# Altium integrated library TI Power Management Linear Regulator Single Channel LDO (400-7500mA).IntLib: 1408 symbols (part 52 of 60)
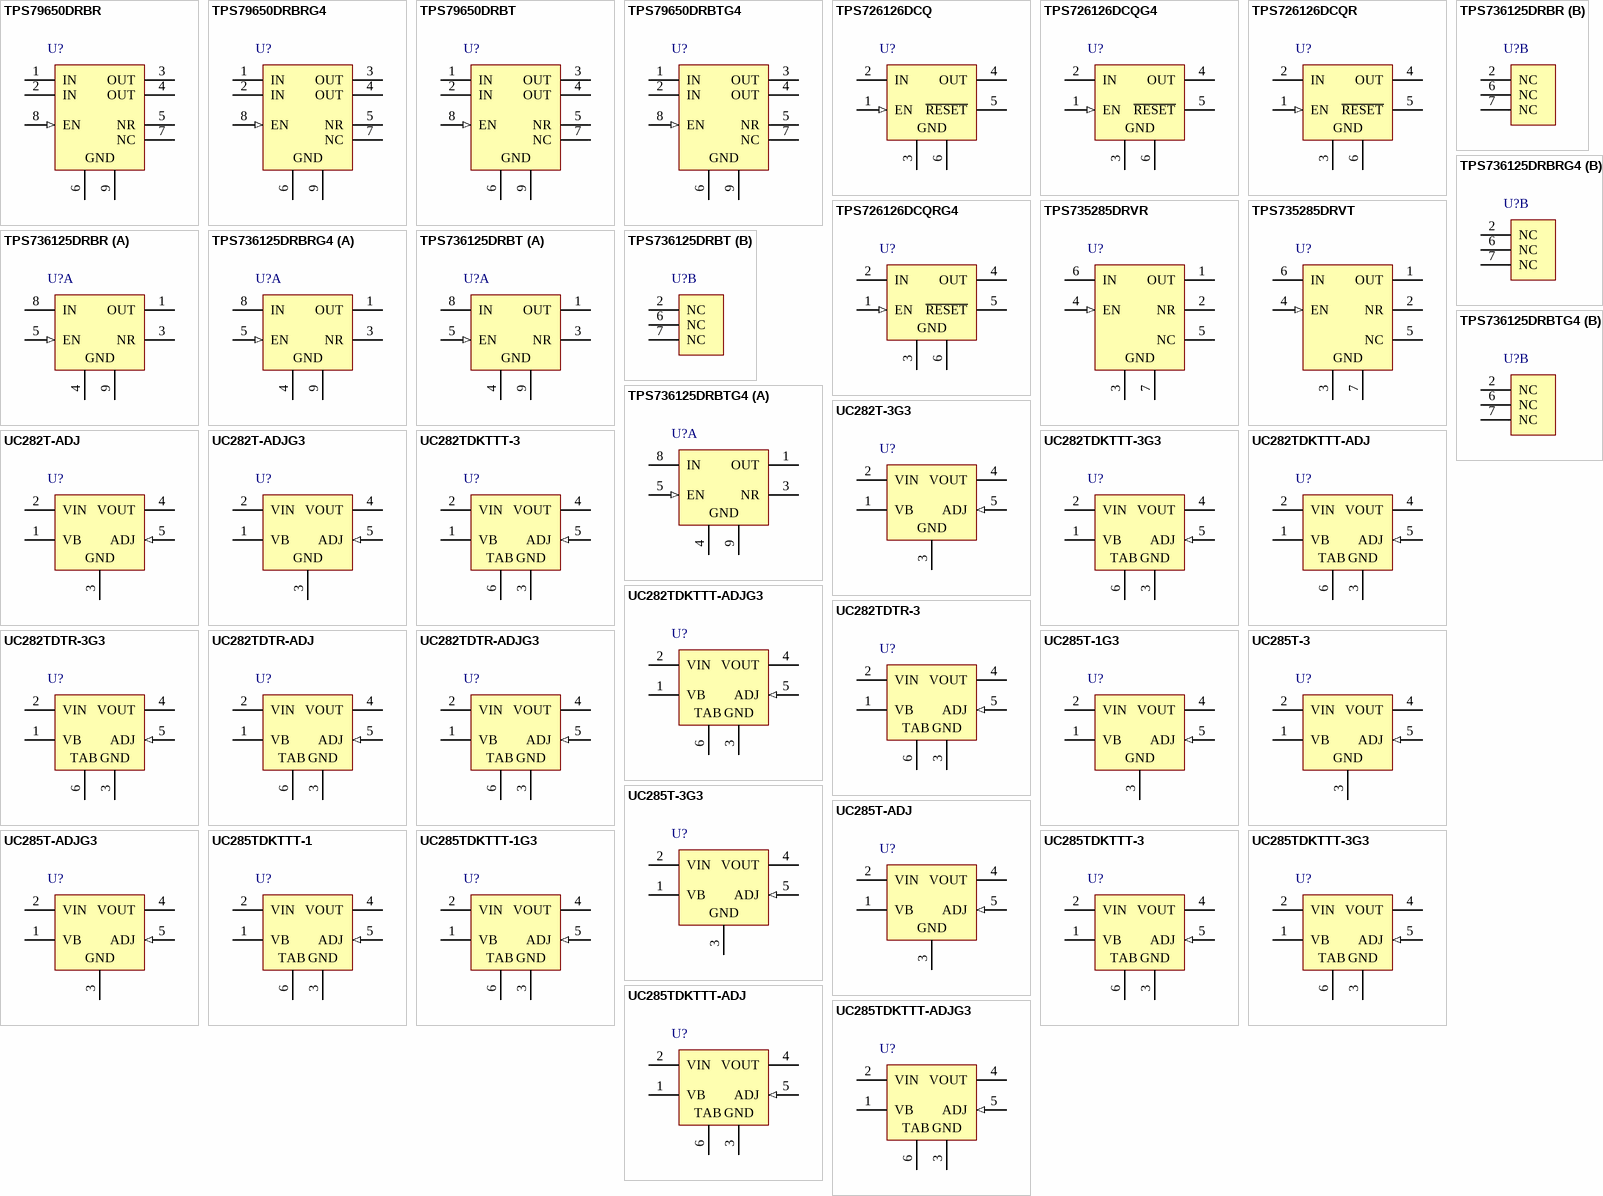
[diagram p101: symbols TPS79650DRBR to UC285TDKTTT-ADJG3]

## TPS726126DCQG4
designator U?
Single Output Any cap LDO, 1 A, Fixed 1.26 V Output, 1.8 to 6 V Input, with Integrated SVS, 6-pin SOT-223 (DCQ), -40 to 125 degC, Green (RoHS & no Sb/Br); Manufacturer: Texas Instruments; PartNumber: TPS726126DCQG4; Accuracy(%): 2; Fixed Output Options(V): 1.26; Iout(Max)(A): 1; Iq(Typ)(mA): 0.07; SubFamily: Single Channel LDO; Vdo(Typ)(mV): 200; Vin(Max)(V): 6; Vin(Min)(V): 1.8; Vout Adj(Max)(V): 1.2; DatasheetVersion: SLVS403H; PackageVersion: 4202109/D; PackageReference: DCQ6; PackageDescription: 6-Pin Plastic Small Outline, Body 3.5 x 6.5 mm, Pitch 1.27 mm; Supplier 1: Digi-Key; Supplier Part Number 1: TPS726126DCQG4-ND; Supplier 2: Mouser; Supplier Part Number 2: 595-TPS726126DCQG4; Eco-Plan: Green (RoHS & no Sb/Br); Vout Adj(Min)(V): 1.2; Mounting Technology: Surface Mount; ComponentLink1Description: Manufacturer URL; ComponentLink1URL: http://www.ti.com/; ComponentLink2Description: Datasheet; ComponentLink2URL: http://www.ti.com/general/docs/lit/getliterature.tsp?genericPartNumber=TPS726126&fileType=pdf; ComponentLink3Description: Package Specification; ComponentLink3URL: http://www.ti.com/litv/pdf/mpds098c
footprint TI-DCQ6_N (SOT223, 6-Leads, Body 6.5x3.5mm, Pitch 1.27mm, IPC Medium Density)
footprint TI-DCQ6_L (SOT223, 6-Leads, Body 6.5x3.5mm, Pitch 1.27mm, IPC High Density)
footprint TI-DCQ6_M (SOT223, 6-Leads, Body 6.5x3.5mm, Pitch 1.27mm, IPC Low Density)
pins: 1 EN (in) "Enable input", 2 IN (power) "Input supply voltage", 3 GND (power) "Ground", 4 OUT (power) "Regulated output voltage", 5 ~{RESET} (oc) "This terminal is the R\E\S\E\T\ output. When used with a pull-up resistor, this open-drain output provides the active low R\E\S\E\T\ signal when the regulator output voltage drops more than 5% below its nominal output (See Datasheet)", 6 GND (power) "Exposed Thermal Tab"

## TPS726126DCQR
designator U?
Single Output Any cap LDO, 1 A, Fixed 1.26 V Output, 1.8 to 6 V Input, with Integrated SVS, 6-pin SOT-223 (DCQ), -40 to 125 degC, Green (RoHS & no Sb/Br); Manufacturer: Texas Instruments; PartNumber: TPS726126DCQR; Accuracy(%): 2; Fixed Output Options(V): 1.26; Iout(Max)(A): 1.; Iq(Typ)(mA): 0.07; SubFamily: Single Channel LDO; Vdo(Typ)(mV): 200; Vin(Max)(V): 6; Vin(Min)(V): 1.8; Vout Adj(Max)(V): 1.2; DatasheetVersion: SLVS403H; PackageVersion: 4202109/D; PackageReference: DCQ6; PackageDescription: 6-Pin Plastic Small Outline, Body 3.5 x 6.5 mm, Pitch 1.27 mm; Supplier 1: Digi-Key; Supplier Part Number 1: TPS726126DCQR-ND; Supplier 2: Newark; Supplier Part Number 2: 40K9774; Supplier 3: Mouser; Supplier Part Number 3: 595-TPS726126DCQR; Eco-Plan: Green (RoHS & no Sb/Br); Vout Adj(Min)(V): 1.2; Mounting Technology: Surface Mount; ComponentLink1Description: Manufacturer URL; ComponentLink1URL: http://www.ti.com/; ComponentLink2Description: Datasheet; ComponentLink2URL: http://www.ti.com/general/docs/lit/getliterature.tsp?genericPartNumber=TPS726126&fileType=pdf; ComponentLink3Description: Package Specification; ComponentLink3URL: http://www.ti.com/litv/pdf/mpds098c
footprint TI-DCQ6_N (SOT223, 6-Leads, Body 6.5x3.5mm, Pitch 1.27mm, IPC Medium Density)
footprint TI-DCQ6_L (SOT223, 6-Leads, Body 6.5x3.5mm, Pitch 1.27mm, IPC High Density)
footprint TI-DCQ6_M (SOT223, 6-Leads, Body 6.5x3.5mm, Pitch 1.27mm, IPC Low Density)
pins: 1 EN (in) "Enable input", 2 IN (power) "Input supply voltage", 3 GND (power) "Ground", 4 OUT (power) "Regulated output voltage", 5 ~{RESET} (oc) "This terminal is the R\E\S\E\T\ output. When used with a pull-up resistor, this open-drain output provides the active low R\E\S\E\T\ signal when the regulator output voltage drops more than 5% below its nominal output (See Datasheet)", 6 GND (power) "Exposed Thermal Tab"

## TPS726126DCQRG4
designator U?
Single Output Any Cap LDO, 1 A, Fixed 1.26 V Output, 1.8 to 6 V Input, with Integrated SVS, 6-pin SOT-223 (DCQ), -40 to 125 degC, Green (RoHS & no Sb/Br); Manufacturer: Texas Instruments; PartNumber: TPS726126DCQRG4; Accuracy(%): 2; Fixed Output Options(V): 1.26; Iout(Max)(A): 1; Iq(Typ)(mA): 0.07; SubFamily: Single Channel LDO; Vdo(Typ)(mV): 200; Vin(Max)(V): 6; Vin(Min)(V): 1.8; Vout Adj(Max)(V): 1.2; DatasheetVersion: SLVS403H; PackageVersion: 4202109/D; PackageReference: DCQ6; PackageDescription: 6-Pin Plastic Small Outline, Body 3.5 x 6.5 mm, Pitch 1.27 mm; Supplier 1: Digi-Key; Supplier Part Number 1: TPS726126DCQRG4-ND; Supplier 2: Mouser; Supplier Part Number 2: 595-TPS726126DCQRG4; Eco-Plan: Green (RoHS & no Sb/Br); Vout Adj(Min)(V): 1.2; Mounting Technology: Surface Mount; ComponentLink1Description: Manufacturer URL; ComponentLink1URL: http://www.ti.com/; ComponentLink2Description: Datasheet; ComponentLink2URL: http://www.ti.com/general/docs/lit/getliterature.tsp?genericPartNumber=TPS726126&fileType=pdf; ComponentLink3Description: Package Specification; ComponentLink3URL: http://www.ti.com/litv/pdf/mpds098c
footprint TI-DCQ6_N (SOT223, 6-Leads, Body 6.5x3.5mm, Pitch 1.27mm, IPC Medium Density)
footprint TI-DCQ6_L (SOT223, 6-Leads, Body 6.5x3.5mm, Pitch 1.27mm, IPC High Density)
footprint TI-DCQ6_M (SOT223, 6-Leads, Body 6.5x3.5mm, Pitch 1.27mm, IPC Low Density)
pins: 1 EN (in) "Enable input", 2 IN (power) "Input supply voltage", 3 GND (power) "Ground", 4 OUT (power) "Regulated output voltage", 5 ~{RESET} (oc) "This terminal is the R\E\S\E\T\ output. When used with a pull-up resistor, this open-drain output provides the active low R\E\S\E\T\ signal when the regulator output voltage drops more than 5% below its nominal output (See Datasheet)", 6 GND (power) "Exposed Thermal Tab"

## TPS735285DRVR
designator U?
Single Output High PSRR LDO, 500 mA, Fixed 2.85 V Output, 2.7 to 6.5 V Input, with Low IQ, 6-pin SON (DRV), -40 to 125 degC, Green (RoHS & no Sb/Br); Manufacturer: Texas Instruments; PartNumber: TPS735285DRVR; Accuracy(%): 2; Fixed Output Options(V): 2.85; Iout(Max)(A): 0.5; Iq(Typ)(mA): 0.04; SubFamily: Single Channel LDO; Vdo(Typ)(mV): 280; Vin(Max)(V): 6.5; Vin(Min)(V): 2.7; DatasheetVersion: SBVS087J; PackageVersion: 4206925/E; PackageReference: DRV6-1600X1000TP; PackageDescription: 6-Pin Plastic Small Outline No-Lead, Body 2 x 2 mm, Pitch 0.65 mm; Supplier 1: Digi-Key; Supplier Part Number 1: 296-28951-2-ND; Supplier 2: Digi-Key; Supplier Part Number 2: 296-28951-1-ND; Supplier 3: Digi-Key; Supplier Part Number 3: 296-28951-6-ND; Supplier 4: Mouser; Supplier Part Number 4: 595-TPS735285DRVR; Eco-Plan: Green (RoHS & no Sb/Br); Vout Adj(Max)(V): 2.85; Vout Adj(Min)(V): 2.85; Mounting Technology: Surface Mount; ComponentLink1Description: Manufacturer URL; ComponentLink1URL: http://www.ti.com/; ComponentLink2Description: Datasheet; ComponentLink2URL: http://www.ti.com/general/docs/lit/getliterature.tsp?genericPartNumber=TPS735285&fileType=pdf; ComponentLink3Description: Package Specification; ComponentLink3URL: http://www.ti.com/litv/pdf/mpds216d
footprint TI-DRV6-1600X1000TP_V (SON, 6-Leads, Body 2x2mm, Pitch 0.65mm, Thermal Pad 1X1.6mm)
pins: 1 OUT (power) "Output of the regulator. A small capacitor (total typical capacitance >= 2.0uF ceramic) is needed from this pin to ground to assure stability.", 2 NR "Fixed voltage versions only; connecting an external capacitor to this pin bypasses noise generated by the internal bandgap. This allows output noise to be reduced to very low levels.", 3 GND (power) "Ground", 4 EN (in) "Driving the enable pin (EN) high turns on the regulator. Driving this pin low puts the regulator into shutdown mode. EN can be connected to IN if not used.", 5 NC "Not internally connected. This pin must either be left open, or tied to GND.", 6 IN (power) "Input supply.", 7 GND (power) "The pad must be tied to GND."

## TPS735285DRVT
designator U?
Single Output High PSRR LDO, 500 mA, Fixed 2.85 V Output, 2.7 to 6.5 V Input, with Low IQ, 6-pin SON (DRV), -40 to 125 degC, Green (RoHS & no Sb/Br); Manufacturer: Texas Instruments; PartNumber: TPS735285DRVT; Accuracy(%): 2; Fixed Output Options(V): 2.85; Iout(Max)(A): 0.5; Iq(Typ)(mA): 0.04; SubFamily: Single Channel LDO; Vdo(Typ)(mV): 280; Vin(Max)(V): 6.5; Vin(Min)(V): 2.7; DatasheetVersion: SBVS087J; PackageVersion: 4206925/E; PackageReference: DRV6-1600X1000TP; PackageDescription: 6-Pin Plastic Small Outline No-Lead, Body 2 x 2 mm, Pitch 0.65 mm; Supplier 1: Digi-Key; Supplier Part Number 1: TPS735285DRVT-ND; Supplier 2: Mouser; Supplier Part Number 2: 595-TPS735285DRVT; Eco-Plan: Green (RoHS & no Sb/Br); Vout Adj(Max)(V): 2.85; Vout Adj(Min)(V): 2.85; Mounting Technology: Surface Mount; ComponentLink1Description: Manufacturer URL; ComponentLink1URL: http://www.ti.com/; ComponentLink2Description: Datasheet; ComponentLink2URL: http://www.ti.com/general/docs/lit/getliterature.tsp?genericPartNumber=TPS735285&fileType=pdf; ComponentLink3Description: Package Specification; ComponentLink3URL: http://www.ti.com/litv/pdf/mpds216d
footprint TI-DRV6-1600X1000TP_V (SON, 6-Leads, Body 2x2mm, Pitch 0.65mm, Thermal Pad 1X1.6mm)
pins: 1 OUT (power) "Output of the regulator. A small capacitor (total typical capacitance >= 2.0uF ceramic) is needed from this pin to ground to assure stability.", 2 NR "Fixed voltage versions only; connecting an external capacitor to this pin bypasses noise generated by the internal bandgap. This allows output noise to be reduced to very low levels.", 3 GND (power) "Ground", 4 EN (in) "Driving the enable pin (EN) high turns on the regulator. Driving this pin low puts the regulator into shutdown mode. EN can be connected to IN if not used.", 5 NC "Not internally connected. This pin must either be left open, or tied to GND.", 6 IN (power) "Input supply.", 7 GND (power) "The pad must be tied to GND."

## TPS736125DRBR
designator U?
Single Output Low Noise LDO, 400 mA, Fixed 1.25 V Output, 1.7 to 5.5 V Input, with Reverse Current Protection, 8-pin SON (DRB), -40 to 85 degC, Green (RoHS & no Sb/Br); Manufacturer: Texas Instruments; PartNumber: TPS736125DRBR; Accuracy(%): 1; Fixed Output Options(V): 1.25; Iout(Max)(A): 0.4; Iq(Typ)(mA): 0.3; Rating: Catalog; SubFamily: Single Channel LDO; Vdo(Typ)(mV): 75; Vin(Max)(V): 5.5; Vin(Min)(V): 1.7; DatasheetVersion: SBVS038T; PackageVersion: 4203482-2/K; PackageReference: DRB8-1750X1500TP; PackageDescription: 8-Pin Plastic Small Outline, Body 3 x 3 mm, Pitch 0.65 mm; Supplier 1: Digi-Key; Supplier Part Number 1: 296-29782-2-ND; Supplier 2: Digi-Key; Supplier Part Number 2: 296-29782-1-ND; Supplier 3: Digi-Key; Supplier Part Number 3: 296-29782-6-ND; Supplier 4: Newark; Supplier Part Number 4: 43K4155; Supplier 5: Mouser; Supplier Part Number 5: 595-TPS736125DRBR; Eco-Plan: Green (RoHS & no Sb/Br); Vout Adj(Max)(V): 1.25; Vout Adj(Min)(V): 1.25; Mounting Technology: Surface Mount; ComponentLink1Description: Manufacturer URL; ComponentLink1URL: http://www.ti.com/; ComponentLink2Description: Datasheet; ComponentLink2URL: http://www.ti.com/general/docs/lit/getliterature.tsp?genericPartNumber=TPS736125&fileType=pdf; ComponentLink3Description: Package Specification; ComponentLink3URL: http://www.ti.com/litv/pdf/mpds118h; ComponentLink4Description: URL Link1; ComponentLink4URL: Samples URL:http://www.ti.com/product/tps736125#samples
footprint TI-DRB8-1750X1500TP_V (SON, 8-Leads, Body 3x3mm, Pitch 0.65mm, Thermal Pad 1.50 x 3.8mm)
part A pins: 1 OUT (power) "Output of the regulator. There are no output capacitor requirements for stability.", 3 NR "Fixed voltage versions only-connecting an external capacitor to this pin bypasses noise generated by the internal bandgap, reducing output noise to very low levels.", 4 GND (power) "Ground", 5 EN (in) "Driving the enable pin (EN) high turns on the regulator. Driving this pin low puts the regulator into shutdown mode. See the Shutdown section under Applications Information for more details. EN can be connected to IN if not (See Datasheet)", 8 IN (power) "Unregulated input supply", 9 GND (power) "Ground"
part B pins: 2 NC "No internal connection", 6 NC "No internal connection", 7 NC "No internal connection"

## TPS736125DRBRG4
designator U?
Single Output Low Noise LDO, 400 mA, Fixed 1.25 V Output, 1.7 to 5.5 V Input, with Reverse Current Protection, 8-pin SON (DRB), -40 to 85 degC, Green (RoHS & no Sb/Br); Manufacturer: Texas Instruments; PartNumber: TPS736125DRBRG4; Accuracy(%): 1; Fixed Output Options(V): 1.25; Iout(Max)(A): 0.4; Iq(Typ)(mA): 0.3; Rating: Catalog; SubFamily: Single Channel LDO; Vdo(Typ)(mV): 75; Vin(Max)(V): 5.5; Vin(Min)(V): 1.7; DatasheetVersion: SBVS038T; PackageVersion: 4203482-2/K; PackageReference: DRB8-1750X1500TP; PackageDescription: 8-Pin Plastic Small Outline, Body 3 x 3 mm, Pitch 0.65 mm; Supplier 1: Digi-Key; Supplier Part Number 1: TPS736125DRBRG4-ND; Supplier 2: Mouser; Supplier Part Number 2: 595-TPS736125DRBRG4; Eco-Plan: Green (RoHS & no Sb/Br); Vout Adj(Max)(V): 1.25; Vout Adj(Min)(V): 1.25; Mounting Technology: Surface Mount; ComponentLink1Description: Manufacturer URL; ComponentLink1URL: http://www.ti.com/; ComponentLink2Description: Datasheet; ComponentLink2URL: http://www.ti.com/general/docs/lit/getliterature.tsp?genericPartNumber=TPS736125&fileType=pdf; ComponentLink3Description: Package Specification; ComponentLink3URL: http://www.ti.com/litv/pdf/mpds118h; ComponentLink4Description: URL Link1; ComponentLink4URL: Samples URL:http://www.ti.com/product/tps736125#samples
footprint TI-DRB8-1750X1500TP_V (SON, 8-Leads, Body 3x3mm, Pitch 0.65mm, Thermal Pad 1.50 x 3.8mm)
part A pins: 1 OUT (power) "Output of the regulator. There are no output capacitor requirements for stability.", 3 NR "Fixed voltage versions only-connecting an external capacitor to this pin bypasses noise generated by the internal bandgap, reducing output noise to very low levels.", 4 GND (power) "Ground", 5 EN (in) "Driving the enable pin (EN) high turns on the regulator. Driving this pin low puts the regulator into shutdown mode. See the Shutdown section under Applications Information for more details. EN can be connected to IN if not (See Datasheet)", 8 IN (power) "Unregulated input supply", 9 GND (power) "Ground"
part B pins: 2 NC "No internal connection", 6 NC "No internal connection", 7 NC "No internal connection"

## TPS736125DRBT
designator U?
Single Output Low Noise LDO, 400 mA, Fixed 1.25 V Output, 1.7 to 5.5 V Input, with Reverse Current Protection, 8-pin SON (DRB), -40 to 85 degC, Green (RoHS & no Sb/Br); Manufacturer: Texas Instruments; PartNumber: TPS736125DRBT; Accuracy(%): 1; Fixed Output Options(V): 1.25; Iout(Max)(A): 0.4; Iq(Typ)(mA): 0.3; Rating: Catalog; SubFamily: Single Channel LDO; Vdo(Typ)(mV): 75; Vin(Max)(V): 5.5; Vin(Min)(V): 1.7; DatasheetVersion: SBVS038T; PackageVersion: 4203482-2/K; PackageReference: DRB8-1750X1500TP; PackageDescription: 8-Pin Plastic Small Outline, Body 3 x 3 mm, Pitch 0.65 mm; Supplier 1: Digi-Key; Supplier Part Number 1: 296-18252-2-ND; Supplier 2: Digi-Key; Supplier Part Number 2: 296-18252-1-ND; Supplier 3: Digi-Key; Supplier Part Number 3: 296-18252-6-ND; Supplier 4: Newark; Supplier Part Number 4: 43K4156; Supplier 5: Mouser; Supplier Part Number 5: 595-TPS736125DRBT; Eco-Plan: Green (RoHS & no Sb/Br); Vout Adj(Max)(V): 1.25; Vout Adj(Min)(V): 1.25; Mounting Technology: Surface Mount; ComponentLink1Description: Manufacturer URL; ComponentLink1URL: http://www.ti.com/; ComponentLink2Description: Datasheet; ComponentLink2URL: http://www.ti.com/general/docs/lit/getliterature.tsp?genericPartNumber=TPS736125&fileType=pdf; ComponentLink3Description: Package Specification; ComponentLink3URL: http://www.ti.com/litv/pdf/mpds118h; ComponentLink4Description: URL Link1; ComponentLink4URL: Samples URL:http://www.ti.com/product/tps736125#samples
footprint TI-DRB8-1750X1500TP_V (SON, 8-Leads, Body 3x3mm, Pitch 0.65mm, Thermal Pad 1.50 x 3.8mm)
part A pins: 1 OUT (power) "Output of the regulator. There are no output capacitor requirements for stability.", 3 NR "Fixed voltage versions only-connecting an external capacitor to this pin bypasses noise generated by the internal bandgap, reducing output noise to very low levels.", 4 GND (power) "Ground", 5 EN (in) "Driving the enable pin (EN) high turns on the regulator. Driving this pin low puts the regulator into shutdown mode. See the Shutdown section under Applications Information for more details. EN can be connected to IN if not (See Datasheet)", 8 IN (power) "Unregulated input supply", 9 GND (power) "Ground"
part B pins: 2 NC "No internal connection", 6 NC "No internal connection", 7 NC "No internal connection"

## TPS736125DRBTG4
designator U?
Single Output Low Noise LDO, 400 mA, Fixed 1.25 V Output, 1.7 to 5.5 V Input, with Reverse Current Protection, 8-pin SON (DRB), -40 to 85 degC, Green (RoHS & no Sb/Br); Manufacturer: Texas Instruments; PartNumber: TPS736125DRBTG4; Accuracy(%): 1; Fixed Output Options(V): 1.25; Iout(Max)(A): 0.4; Iq(Typ)(mA): 0.3; Rating: Catalog; SubFamily: Single Channel LDO; Vdo(Typ)(mV): 75; Vin(Max)(V): 5.5; Vin(Min)(V): 1.7; DatasheetVersion: SBVS038T; PackageVersion: 4203482-2/K; PackageReference: DRB8-1750X1500TP; PackageDescription: 8-Pin Plastic Small Outline, Body 3 x 3 mm, Pitch 0.65 mm; Supplier 1: Digi-Key; Supplier Part Number 1: TPS736125DRBTG4-ND; Supplier 2: Mouser; Supplier Part Number 2: 595-TPS736125DRBTG4; Eco-Plan: Green (RoHS & no Sb/Br); Vout Adj(Max)(V): 1.25; Vout Adj(Min)(V): 1.25; Mounting Technology: Surface Mount; ComponentLink1Description: Manufacturer URL; ComponentLink1URL: http://www.ti.com/; ComponentLink2Description: Datasheet; ComponentLink2URL: http://www.ti.com/general/docs/lit/getliterature.tsp?genericPartNumber=TPS736125&fileType=pdf; ComponentLink3Description: Package Specification; ComponentLink3URL: http://www.ti.com/litv/pdf/mpds118h; ComponentLink4Description: URL Link1; ComponentLink4URL: Samples URL:http://www.ti.com/product/tps736125#samples
footprint TI-DRB8-1750X1500TP_V (SON, 8-Leads, Body 3x3mm, Pitch 0.65mm, Thermal Pad 1.50 x 3.8mm)
part A pins: 1 OUT (power) "Output of the regulator. There are no output capacitor requirements for stability.", 3 NR "Fixed voltage versions only-connecting an external capacitor to this pin bypasses noise generated by the internal bandgap, reducing output noise to very low levels.", 4 GND (power) "Ground", 5 EN (in) "Driving the enable pin (EN) high turns on the regulator. Driving this pin low puts the regulator into shutdown mode. See the Shutdown section under Applications Information for more details. EN can be connected to IN if not (See Datasheet)", 8 IN (power) "Unregulated input supply", 9 GND (power) "Ground"
part B pins: 2 NC "No internal connection", 6 NC "No internal connection", 7 NC "No internal connection"

## UC282T-3G3
designator U?
Single Output Fast Transient Response LDO, 3 A, Fixed 3 V Output, 2.8 to 7.5 V Input, with Low IQ, 5-pin TO-220 (KC), -40 to 100 degC, Green (RoHS & no Sb/Br); Manufacturer: Texas Instruments; PartNumber: UC282T-3G3; Accuracy(%): 1; Fixed Output Options(V): 3.0; Iout(Max)(A): 3; Iq(Typ)(mA): 18; SubFamily: Single Channel LDO; Vdo(Typ)(mV): 350; Vin(Max)(V): 7.5; Vin(Min)(V): 2.8; DatasheetVersion: SLUS317B; PackageVersion: 4040208/F; PackageReference: KC5; PackageDescription: 5-Pin Plastic Flange Mount; Supplier 1: Digi-Key; Supplier Part Number 1: UC282T-3G3-ND; Supplier 2: Mouser; Supplier Part Number 2: 595-UC282T-3G3; Eco-Plan: Green (RoHS & no Sb/Br); Vout Adj(Max)(V): 3.0; Vout Adj(Min)(V): 3.0; Mounting Technology: Through Hole; ComponentLink1Description: Manufacturer URL; ComponentLink1URL: http://www.ti.com/; ComponentLink2Description: Datasheet; ComponentLink2URL: http://www.ti.com/general/docs/lit/getliterature.tsp?genericPartNumber=UC282-3&fileType=pdf; ComponentLink3Description: Package Specification; ComponentLink3URL: http://www.ti.com/litv/pdf/msot008c
footprint TI-KC5 (FM, 5-Leads, Body 10.16x8.46mm, Pitch 1.7mm,)
pins: 1 VB (power) "Supplies power to all circuits of the regulator except the output power transistor. The 2-V headroom from VB to VOUT allows the use of a Darlington output stage for inherently low output impedance and fast response. (Dropout (See Datasheet)", 2 VIN (power) "Supplies the current to the collector of the output power transistor only. The dropout (VIN-VOUT) is under 100 mV for light loads; maximum dropout is 490 mV at 5 A for TJ = 0degreesC to 100degreesC. (Dropout is derated for (See Datasheet)", 3 GND (power) "For accurate results, the GND pin should be referenced to the load ground.", 4 VOUT (power) "This pin should be connected to the load via a low impedance path. Avoid connectors which add significant inductance and resistance. Note that even though a Kelvin sense is available through a 5-pin package, care must be (See Datasheet)", 5 ADJ (in) "In the adjustable version, the user programs the output voltage with two external resistors. The resistors should be 0.1% for high accuracy. The output amplifier is configured as a noninverting operational amplifier. The (See Datasheet)"

## UC282T-ADJ
designator U?
Single Output Fast Transient Response LDO, 3 A, Adjustable 1.2 to 6 V Output, 1.7 to 7.5 V Input, 5-pin TO-220 (KC), -40 to 100 degC, Green (RoHS & no Sb/Br); Manufacturer: Texas Instruments; PartNumber: UC282T-ADJ; Accuracy(%): 1; Iout(Max)(A): 3; Iq(Typ)(mA): 18; SubFamily: Single Channel LDO; Vdo(Typ)(mV): 350; Vin(Max)(V): 7.5; Vin(Min)(V): 1.7; Vout Adj(Max)(V): 6; Vout Adj(Min)(V): 1.2; DatasheetVersion: SLUS317B; PackageVersion: 4040208/F; PackageReference: KC5; PackageDescription: 5-Pin Plastic Flange Mount; Supplier 1: Digi-Key; Supplier Part Number 1: 296-15149-5-ND; Supplier 2: Mouser; Supplier Part Number 2: 595-UC282T-ADJ; Eco-Plan: Green (RoHS & no Sb/Br); Mounting Technology: Through Hole; ComponentLink1Description: Manufacturer URL; ComponentLink1URL: http://www.ti.com/; ComponentLink2Description: Datasheet; ComponentLink2URL: http://www.ti.com/general/docs/lit/getliterature.tsp?genericPartNumber=UC282-ADJ&fileType=pdf; ComponentLink3Description: Package Specification; ComponentLink3URL: http://www.ti.com/litv/pdf/msot008c
footprint TI-KC5 (FM, 5-Leads, Body 10.16x8.46mm, Pitch 1.7mm,)
pins: 1 VB (power) "Supplies power to all circuits of the regulator except the output power transistor. The 2-V headroom from VB to VOUT allows the use of a Darlington output stage for inherently low output impedance and fast response. (Dropout (See Datasheet)", 2 VIN (power) "Supplies the current to the collector of the output power transistor only. The dropout (VIN-VOUT) is under 100 mV for light loads; maximum dropout is 490 mV at 5 A for TJ = 0degreesC to 100degreesC. (Dropout is derated for (See Datasheet)", 3 GND (power) "For accurate results, the GND pin should be referenced to the load ground.", 4 VOUT (power) "This pin should be connected to the load via a low impedance path. Avoid connectors which add significant inductance and resistance. Note that even though a Kelvin sense is available through a 5-pin package, care must be (See Datasheet)", 5 ADJ (in) "In the adjustable version, the user programs the output voltage with two external resistors. The resistors should be 0.1% for high accuracy. The output amplifier is configured as a noninverting operational amplifier. The (See Datasheet)"

## UC282T-ADJG3
designator U?
Single Output Fast Transient Response LDO, 3 A, Adjustable 1.2 to 6 V Output, 1.7 to 7.5 V Input, 5-pin TO-220 (KC), -40 to 100 degC, Green (RoHS & no Sb/Br); Manufacturer: Texas Instruments; PartNumber: UC282T-ADJG3; Accuracy(%): 1; Iout(Max)(A): 3; Iq(Typ)(mA): 18; SubFamily: Single Channel LDO; Vdo(Typ)(mV): 350; Vin(Max)(V): 7.5; Vin(Min)(V): 1.7; Vout Adj(Max)(V): 6; Vout Adj(Min)(V): 1.2; DatasheetVersion: SLUS317B; PackageVersion: 4040208/F; PackageReference: KC5; PackageDescription: 5-Pin Plastic Flange Mount; Supplier 1: Digi-Key; Supplier Part Number 1: UC282T-ADJG3-ND; Supplier 2: Newark; Supplier Part Number 2: 99K4482; Supplier 3: Mouser; Supplier Part Number 3: 595-UC282T-ADJG3; Eco-Plan: Green (RoHS & no Sb/Br); Mounting Technology: Through Hole; ComponentLink1Description: Manufacturer URL; ComponentLink1URL: http://www.ti.com/; ComponentLink2Description: Datasheet; ComponentLink2URL: http://www.ti.com/general/docs/lit/getliterature.tsp?genericPartNumber=UC282-ADJ&fileType=pdf; ComponentLink3Description: Package Specification; ComponentLink3URL: http://www.ti.com/litv/pdf/msot008c
footprint TI-KC5 (FM, 5-Leads, Body 10.16x8.46mm, Pitch 1.7mm,)
pins: 1 VB (power) "Supplies power to all circuits of the regulator except the output power transistor. The 2-V headroom from VB to VOUT allows the use of a Darlington output stage for inherently low output impedance and fast response. (Dropout (See Datasheet)", 2 VIN (power) "Supplies the current to the collector of the output power transistor only. The dropout (VIN-VOUT) is under 100 mV for light loads; maximum dropout is 490 mV at 5 A for TJ = 0degreesC to 100degreesC. (Dropout is derated for (See Datasheet)", 3 GND (power) "For accurate results, the GND pin should be referenced to the load ground.", 4 VOUT (power) "This pin should be connected to the load via a low impedance path. Avoid connectors which add significant inductance and resistance. Note that even though a Kelvin sense is available through a 5-pin package, care must be (See Datasheet)", 5 ADJ (in) "In the adjustable version, the user programs the output voltage with two external resistors. The resistors should be 0.1% for high accuracy. The output amplifier is configured as a noninverting operational amplifier. The (See Datasheet)"

## UC282TDKTTT-3
designator U?
Single Output Fast Transient Response LDO, 3 A, Fixed 2.5 V Output, 2.8 to 7.5 V Input, 5-pin DDPAK (KTT), -40 to 100 degC, Green (RoHS & no Sb/Br); Manufacturer: Texas Instruments; PartNumber: UC282TDKTTT-3; Accuracy(%): 1; Fixed Output Options(V): 2.5; Iout(Max)(A): 3; Iq(Typ)(mA): 18; SubFamily: Single Channel LDO; Vdo(Typ)(mV): 350; Vin(Max)(V): 7.5; Vin(Min)(V): 2.8; DatasheetVersion: SLUS317B; PackageVersion: 4200577-3/F; PackageReference: KTT5; PackageDescription: 3-Pin Plastic Flange Mount, Body 10.16 x 10.34 mm, Pitch 1.7 mm; Supplier 1: Digi-Key; Supplier Part Number 1: 296-16013-2-ND; Supplier 2: Digi-Key; Supplier Part Number 2: 296-16013-1-ND; Supplier 3: Mouser; Supplier Part Number 3: 595-UC282TDKTTT-3; Eco-Plan: Green (RoHS & no Sb/Br); Vout Adj(Max)(V): 2.5; Vout Adj(Min)(V): 2.5; Mounting Technology: Surface Mount; Code_JEDEC: TO-263; ComponentLink1Description: Manufacturer URL; ComponentLink1URL: http://www.ti.com/; ComponentLink2Description: Datasheet; ComponentLink2URL: http://www.ti.com/general/docs/lit/getliterature.tsp?genericPartNumber=UC282-3&fileType=pdf; ComponentLink3Description: Package Specification; ComponentLink3URL: http://www.ti.com/litv/pdf/mpsf007e
footprint TI-KTT5_N (DPAK, 5-Leads, Body 10.16x8.925mm, Pitch 1.7mm, IPC Medium Density)
footprint TI-KTT5_L (DPAK, 5-Leads, Body 10.16x8.925mm, Pitch 1.7mm, IPC High Density)
footprint TI-KTT5_M (DPAK, 5-Leads, Body 10.16x8.925mm, Pitch 1.7mm, IPC Low Density)
pins: 1 VB (power) "Supplies power to all circuits of the regulator except the output power transistor. The 2-V headroom from VB to VOUT allows the use of a Darlington output stage for inherently low output impedance and fast response.(Dropout (See Datasheet)", 2 VIN (power) "Supplies the current to the collector of the output power transistor only. The dropout (VIN-VOUT) is under 100 mV for light loads; maximum dropout is 490 mV at 5 A for TJ = 0degreesC to 100degreesC. (Dropout is derated for (See Datasheet)", 3 GND (power) "For accurate results, the GND pin should be referenced to the load ground.", 4 VOUT (power) "This pin should be connected to the load via a low impedance path. Avoid connectors which add significant inductance and resistance. Note that even though a Kelvin sense is available through a 5-pin package, care must be (See Datasheet)", 5 ADJ (in) "In the adjustable version, the user programs the output voltage with two external resistors. The resistors should be 0.1% for high accuracy. The output amplifier is configured as a noninverting operational amplifier. The (See Datasheet)", 6 TAB (power) "Tab = Ground"

## UC282TDKTTT-3G3
designator U?
Single Output Fast Transient Response LDO, 3 A, Fixed 2.5 V Output, 2.8 to 7.5 V Input, 5-pin DDPAK (KTT), -40 to 100 degC, Green (RoHS & no Sb/Br); Manufacturer: Texas Instruments; PartNumber: UC282TDKTTT-3G3; Accuracy(%): 1; Fixed Output Options(V): 2.5; Iout(Max)(A): 3; Iq(Typ)(mA): 18; SubFamily: Single Channel LDO; Vdo(Typ)(mV): 350; Vin(Max)(V): 7.5; Vin(Min)(V): 2.8; DatasheetVersion: SLUS317B; PackageVersion: 4200577-3/F; PackageReference: KTT5; PackageDescription: 3-Pin Plastic Flange Mount, Body 10.16 x 10.34 mm, Pitch 1.7 mm; Supplier 1: Digi-Key; Supplier Part Number 1: UC282TDKTTT-3G3-ND; Supplier 2: Mouser; Supplier Part Number 2: 595-UC282TDKTTT-3G3; Eco-Plan: Green (RoHS & no Sb/Br); Vout Adj(Max)(V): 2.5; Vout Adj(Min)(V): 2.5; Mounting Technology: Surface Mount; Code_JEDEC: TO-263; ComponentLink1Description: Manufacturer URL; ComponentLink1URL: http://www.ti.com/; ComponentLink2Description: Datasheet; ComponentLink2URL: http://www.ti.com/general/docs/lit/getliterature.tsp?genericPartNumber=UC282-3&fileType=pdf; ComponentLink3Description: Package Specification; ComponentLink3URL: http://www.ti.com/litv/pdf/mpsf007e
footprint TI-KTT5_N (DPAK, 5-Leads, Body 10.16x8.925mm, Pitch 1.7mm, IPC Medium Density)
footprint TI-KTT5_L (DPAK, 5-Leads, Body 10.16x8.925mm, Pitch 1.7mm, IPC High Density)
footprint TI-KTT5_M (DPAK, 5-Leads, Body 10.16x8.925mm, Pitch 1.7mm, IPC Low Density)
pins: 1 VB (power) "Supplies power to all circuits of the regulator except the output power transistor. The 2-V headroom from VB to VOUT allows the use of a Darlington output stage for inherently low output impedance and fast response.(Dropout (See Datasheet)", 2 VIN (power) "Supplies the current to the collector of the output power transistor only. The dropout (VIN-VOUT) is under 100 mV for light loads; maximum dropout is 490 mV at 5 A for TJ = 0degreesC to 100degreesC. (Dropout is derated for (See Datasheet)", 3 GND (power) "For accurate results, the GND pin should be referenced to the load ground.", 4 VOUT (power) "This pin should be connected to the load via a low impedance path. Avoid connectors which add significant inductance and resistance. Note that even though a Kelvin sense is available through a 5-pin package, care must be (See Datasheet)", 5 ADJ (in) "In the adjustable version, the user programs the output voltage with two external resistors. The resistors should be 0.1% for high accuracy. The output amplifier is configured as a noninverting operational amplifier. The (See Datasheet)", 6 TAB (power) "Tab = Ground"

## UC282TDKTTT-ADJ
designator U?
Single Output Fast Transient Response LDO, 3 A, Adjustable 1.2 to 6 V Output, 1.7 to 7.5 V Input, 5-pin DDPAK (KTT), -40 to 100 degC, Green (RoHS & no Sb/Br); Manufacturer: Texas Instruments; PartNumber: UC282TDKTTT-ADJ; Accuracy(%): 1; Iout(Max)(A): 3; Iq(Typ)(mA): 18; SubFamily: Single Channel LDO; Vdo(Typ)(mV): 350; Vin(Max)(V): 7.5; Vin(Min)(V): 1.7; Vout Adj(Max)(V): 6; Vout Adj(Min)(V): 1.2; DatasheetVersion: SLUS317B; PackageVersion: 4200577-3/F; PackageReference: KTT5; PackageDescription: 3-Pin Plastic Flange Mount, Body 10.16 x 10.34 mm, Pitch 1.7 mm; Supplier 1: Digi-Key; Supplier Part Number 1: 296-16014-2-ND; Supplier 2: Digi-Key; Supplier Part Number 2: 296-16014-1-ND; Supplier 3: Digi-Key; Supplier Part Number 3: 296-16014-6-ND; Supplier 4: Newark; Supplier Part Number 4: 45P6144; Supplier 5: Mouser; Supplier Part Number 5: 595-UC282TDKTTT-ADJ; Eco-Plan: Green (RoHS & no Sb/Br); Mounting Technology: Surface Mount; Code_JEDEC: TO-263; ComponentLink1Description: Manufacturer URL; ComponentLink1URL: http://www.ti.com/; ComponentLink2Description: Datasheet; ComponentLink2URL: http://www.ti.com/general/docs/lit/getliterature.tsp?genericPartNumber=UC282-ADJ&fileType=pdf; ComponentLink3Description: Package Specification; ComponentLink3URL: http://www.ti.com/litv/pdf/mpsf007e
footprint TI-KTT5_N (DPAK, 5-Leads, Body 10.16x8.925mm, Pitch 1.7mm, IPC Medium Density)
footprint TI-KTT5_L (DPAK, 5-Leads, Body 10.16x8.925mm, Pitch 1.7mm, IPC High Density)
footprint TI-KTT5_M (DPAK, 5-Leads, Body 10.16x8.925mm, Pitch 1.7mm, IPC Low Density)
pins: 1 VB (power) "Supplies power to all circuits of the regulator except the output power transistor. The 2-V headroom from VB to VOUT allows the use of a Darlington output stage for inherently low output impedance and fast response.(Dropout (See Datasheet)", 2 VIN (power) "Supplies the current to the collector of the output power transistor only. The dropout (VIN-VOUT) is under 100 mV for light loads; maximum dropout is 490 mV at 5 A for TJ = 0degreesC to 100degreesC. (Dropout is derated for (See Datasheet)", 3 GND (power) "For accurate results, the GND pin should be referenced to the load ground.", 4 VOUT (power) "This pin should be connected to the load via a low impedance path. Avoid connectors which add significant inductance and resistance. Note that even though a Kelvin sense is available through a 5-pin package, care must be (See Datasheet)", 5 ADJ (in) "In the adjustable version, the user programs the output voltage with two external resistors. The resistors should be 0.1% for high accuracy. The output amplifier is configured as a noninverting operational amplifier. The (See Datasheet)", 6 TAB (power) "Tab = Ground"

## UC282TDKTTT-ADJG3
designator U?
Single Output Fast Transient Response LDO, 3 A, Adjustable 1.2 to 6 V Output, 1.7 to 7.5 V Input, 5-pin DDPAK (KTT), -40 to 100 degC, Green (RoHS & no Sb/Br); Manufacturer: Texas Instruments; PartNumber: UC282TDKTTT-ADJG3; Accuracy(%): 1; Iout(Max)(A): 3; Iq(Typ)(mA): 18; SubFamily: Single Channel LDO; Vdo(Typ)(mV): 350; Vin(Max)(V): 7.5; Vin(Min)(V): 1.7; Vout Adj(Max)(V): 6; Vout Adj(Min)(V): 1.2; DatasheetVersion: SLUS317B; PackageVersion: 4200577-3/F; PackageReference: KTT5; PackageDescription: 3-Pin Plastic Flange Mount, Body 10.16 x 10.34 mm, Pitch 1.7 mm; Supplier 1: Digi-Key; Supplier Part Number 1: UC282TDKTTT-ADJG3-ND; Supplier 2: Mouser; Supplier Part Number 2: 595-UC282TDKTTTADJG3; Eco-Plan: Green (RoHS & no Sb/Br); Mounting Technology: Surface Mount; Code_JEDEC: TO-263; ComponentLink1Description: Manufacturer URL; ComponentLink1URL: http://www.ti.com/; ComponentLink2Description: Datasheet; ComponentLink2URL: http://www.ti.com/general/docs/lit/getliterature.tsp?genericPartNumber=UC282-ADJ&fileType=pdf; ComponentLink3Description: Package Specification; ComponentLink3URL: http://www.ti.com/litv/pdf/mpsf007e
footprint TI-KTT5_N (DPAK, 5-Leads, Body 10.16x8.925mm, Pitch 1.7mm, IPC Medium Density)
footprint TI-KTT5_L (DPAK, 5-Leads, Body 10.16x8.925mm, Pitch 1.7mm, IPC High Density)
footprint TI-KTT5_M (DPAK, 5-Leads, Body 10.16x8.925mm, Pitch 1.7mm, IPC Low Density)
pins: 1 VB (power) "Supplies power to all circuits of the regulator except the output power transistor. The 2-V headroom from VB to VOUT allows the use of a Darlington output stage for inherently low output impedance and fast response.(Dropout (See Datasheet)", 2 VIN (power) "Supplies the current to the collector of the output power transistor only. The dropout (VIN-VOUT) is under 100 mV for light loads; maximum dropout is 490 mV at 5 A for TJ = 0degreesC to 100degreesC. (Dropout is derated for (See Datasheet)", 3 GND (power) "For accurate results, the GND pin should be referenced to the load ground.", 4 VOUT (power) "This pin should be connected to the load via a low impedance path. Avoid connectors which add significant inductance and resistance. Note that even though a Kelvin sense is available through a 5-pin package, care must be (See Datasheet)", 5 ADJ (in) "In the adjustable version, the user programs the output voltage with two external resistors. The resistors should be 0.1% for high accuracy. The output amplifier is configured as a noninverting operational amplifier. The (See Datasheet)", 6 TAB (power) "Tab = Ground"

## UC282TDTR-3
designator U?
Single Output Fast Transient Response LDO, 3 A, Fixed 2.5 V Output, 2.8 to 7.5 V Input, 5-pin DDPAK (KTT), -40 to 100 degC, Green (RoHS & no Sb/Br); Manufacturer: Texas Instruments; PartNumber: UC282TDTR-3; Accuracy(%): 1; Fixed Output Options(V): 2.5; Iout(Max)(A): 3; Iq(Typ)(mA): 18; SubFamily: Single Channel LDO; Vdo(Typ)(mV): 350; Vin(Max)(V): 7.5; Vin(Min)(V): 2.8; DatasheetVersion: SLUS317B; PackageVersion: 4200577-3/F; PackageReference: KTT5; PackageDescription: 3-Pin Plastic Flange Mount, Body 10.16 x 10.34 mm, Pitch 1.7 mm; Supplier 1: Digi-Key; Supplier Part Number 1: 296-19031-2-ND; Supplier 2: Digi-Key; Supplier Part Number 2: 296-19031-1-ND; Supplier 3: Digi-Key; Supplier Part Number 3: 296-19031-6-ND; Supplier 4: Mouser; Supplier Part Number 4: 595-UC282TDTR-3; Eco-Plan: Green (RoHS & no Sb/Br); Vout Adj(Max)(V): 2.5; Vout Adj(Min)(V): 2.5; Mounting Technology: Surface Mount; Code_JEDEC: TO-263; ComponentLink1Description: Manufacturer URL; ComponentLink1URL: http://www.ti.com/; ComponentLink2Description: Datasheet; ComponentLink2URL: http://www.ti.com/general/docs/lit/getliterature.tsp?genericPartNumber=UC282-3&fileType=pdf; ComponentLink3Description: Package Specification; ComponentLink3URL: http://www.ti.com/litv/pdf/mpsf007e
footprint TI-KTT5_N (DPAK, 5-Leads, Body 10.16x8.925mm, Pitch 1.7mm, IPC Medium Density)
footprint TI-KTT5_L (DPAK, 5-Leads, Body 10.16x8.925mm, Pitch 1.7mm, IPC High Density)
footprint TI-KTT5_M (DPAK, 5-Leads, Body 10.16x8.925mm, Pitch 1.7mm, IPC Low Density)
pins: 1 VB (power) "Supplies power to all circuits of the regulator except the output power transistor. The 2-V headroom from VB to VOUT allows the use of a Darlington output stage for inherently low output impedance and fast response.(Dropout (See Datasheet)", 2 VIN (power) "Supplies the current to the collector of the output power transistor only. The dropout (VIN-VOUT) is under 100 mV for light loads; maximum dropout is 490 mV at 5 A for TJ = 0degreesC to 100degreesC. (Dropout is derated for (See Datasheet)", 3 GND (power) "For accurate results, the GND pin should be referenced to the load ground.", 4 VOUT (power) "This pin should be connected to the load via a low impedance path. Avoid connectors which add significant inductance and resistance. Note that even though a Kelvin sense is available through a 5-pin package, care must be (See Datasheet)", 5 ADJ (in) "In the adjustable version, the user programs the output voltage with two external resistors. The resistors should be 0.1% for high accuracy. The output amplifier is configured as a noninverting operational amplifier. The (See Datasheet)", 6 TAB (power) "Tab = Ground"

## UC282TDTR-3G3
designator U?
Single Output Fast Transient Response LDO, 3 A, Fixed 2.5 V Output, 2.8 to 7.5 V Input, 5-pin DDPAK (KTT), -40 to 100 degC, Green (RoHS & no Sb/Br); Manufacturer: Texas Instruments; PartNumber: UC282TDTR-3G3; Accuracy(%): 1; Fixed Output Options(V): 2.5; Iout(Max)(A): 3; Iq(Typ)(mA): 18; SubFamily: Single Channel LDO; Vdo(Typ)(mV): 350; Vin(Max)(V): 7.5; Vin(Min)(V): 2.8; DatasheetVersion: SLUS317B; PackageVersion: 4200577-3/F; PackageReference: KTT5; PackageDescription: 3-Pin Plastic Flange Mount, Body 10.16 x 10.34 mm, Pitch 1.7 mm; Supplier 1: Digi-Key; Supplier Part Number 1: UC282TDTR-3G3-ND; Supplier 2: Mouser; Supplier Part Number 2: 595-UC282TDTR-3G3; Eco-Plan: Green (RoHS & no Sb/Br); Vout Adj(Max)(V): 2.5; Vout Adj(Min)(V): 2.5; Mounting Technology: Surface Mount; Code_JEDEC: TO-263; ComponentLink1Description: Manufacturer URL; ComponentLink1URL: http://www.ti.com/; ComponentLink2Description: Datasheet; ComponentLink2URL: http://www.ti.com/general/docs/lit/getliterature.tsp?genericPartNumber=UC282-3&fileType=pdf; ComponentLink3Description: Package Specification; ComponentLink3URL: http://www.ti.com/litv/pdf/mpsf007e
footprint TI-KTT5_N (DPAK, 5-Leads, Body 10.16x8.925mm, Pitch 1.7mm, IPC Medium Density)
footprint TI-KTT5_L (DPAK, 5-Leads, Body 10.16x8.925mm, Pitch 1.7mm, IPC High Density)
footprint TI-KTT5_M (DPAK, 5-Leads, Body 10.16x8.925mm, Pitch 1.7mm, IPC Low Density)
pins: 1 VB (power) "Supplies power to all circuits of the regulator except the output power transistor. The 2-V headroom from VB to VOUT allows the use of a Darlington output stage for inherently low output impedance and fast response.(Dropout (See Datasheet)", 2 VIN (power) "Supplies the current to the collector of the output power transistor only. The dropout (VIN-VOUT) is under 100 mV for light loads; maximum dropout is 490 mV at 5 A for TJ = 0degreesC to 100degreesC. (Dropout is derated for (See Datasheet)", 3 GND (power) "For accurate results, the GND pin should be referenced to the load ground.", 4 VOUT (power) "This pin should be connected to the load via a low impedance path. Avoid connectors which add significant inductance and resistance. Note that even though a Kelvin sense is available through a 5-pin package, care must be (See Datasheet)", 5 ADJ (in) "In the adjustable version, the user programs the output voltage with two external resistors. The resistors should be 0.1% for high accuracy. The output amplifier is configured as a noninverting operational amplifier. The (See Datasheet)", 6 TAB (power) "Tab = Ground"

## UC282TDTR-ADJ
designator U?
Single Output Fast Transient Response LDO, 3 A, Adjustable 1.2 to 6 V Output, 1.7 to 7.5 V Input, 5-pin DDPAK (KTT), -40 to 100 degC, Green (RoHS & no Sb/Br); Manufacturer: Texas Instruments; PartNumber: UC282TDTR-ADJ; Accuracy(%): 1; Iout(Max)(A): 3; Iq(Typ)(mA): 18; SubFamily: Single Channel LDO; Vdo(Typ)(mV): 350; Vin(Max)(V): 7.5; Vin(Min)(V): 1.7; Vout Adj(Max)(V): 6; Vout Adj(Min)(V): 1.2; DatasheetVersion: SLUS317B; PackageVersion: 4200577-3/F; PackageReference: KTT5; PackageDescription: 3-Pin Plastic Flange Mount, Body 10.16 x 10.34 mm, Pitch 1.7 mm; Supplier 1: Digi-Key; Supplier Part Number 1: 296-18067-2-ND; Supplier 2: Digi-Key; Supplier Part Number 2: 296-18067-1-ND; Supplier 3: Digi-Key; Supplier Part Number 3: 296-18067-6-ND; Supplier 4: Newark; Supplier Part Number 4: 77C2882; Supplier 5: Mouser; Supplier Part Number 5: 595-UC282TDTR-ADJ; Eco-Plan: Green (RoHS & no Sb/Br); Mounting Technology: Surface Mount; Code_JEDEC: TO-263; ComponentLink1Description: Manufacturer URL; ComponentLink1URL: http://www.ti.com/; ComponentLink2Description: Datasheet; ComponentLink2URL: http://www.ti.com/general/docs/lit/getliterature.tsp?genericPartNumber=UC282-ADJ&fileType=pdf; ComponentLink3Description: Package Specification; ComponentLink3URL: http://www.ti.com/litv/pdf/mpsf007e
footprint TI-KTT5_N (DPAK, 5-Leads, Body 10.16x8.925mm, Pitch 1.7mm, IPC Medium Density)
footprint TI-KTT5_L (DPAK, 5-Leads, Body 10.16x8.925mm, Pitch 1.7mm, IPC High Density)
footprint TI-KTT5_M (DPAK, 5-Leads, Body 10.16x8.925mm, Pitch 1.7mm, IPC Low Density)
pins: 1 VB (power) "Supplies power to all circuits of the regulator except the output power transistor. The 2-V headroom from VB to VOUT allows the use of a Darlington output stage for inherently low output impedance and fast response.(Dropout (See Datasheet)", 2 VIN (power) "Supplies the current to the collector of the output power transistor only. The dropout (VIN-VOUT) is under 100 mV for light loads; maximum dropout is 490 mV at 5 A for TJ = 0degreesC to 100degreesC. (Dropout is derated for (See Datasheet)", 3 GND (power) "For accurate results, the GND pin should be referenced to the load ground.", 4 VOUT (power) "This pin should be connected to the load via a low impedance path. Avoid connectors which add significant inductance and resistance. Note that even though a Kelvin sense is available through a 5-pin package, care must be (See Datasheet)", 5 ADJ (in) "In the adjustable version, the user programs the output voltage with two external resistors. The resistors should be 0.1% for high accuracy. The output amplifier is configured as a noninverting operational amplifier. The (See Datasheet)", 6 TAB (power) "Tab = Ground"

## UC282TDTR-ADJG3
designator U?
Single Output Fast Transient Response LDO, 3 A, Adjustable 1.2 to 6 V Output, 1.7 to 7.5 V Input, 5-pin DDPAK (KTT), -40 to 100 degC, Green (RoHS & no Sb/Br); Manufacturer: Texas Instruments; PartNumber: UC282TDTR-ADJG3; Accuracy(%): 1; Iout(Max)(A): 3; Iq(Typ)(mA): 18; SubFamily: Single Channel LDO; Vdo(Typ)(mV): 350; Vin(Max)(V): 7.5; Vin(Min)(V): 1.7; Vout Adj(Max)(V): 6; Vout Adj(Min)(V): 1.2; DatasheetVersion: SLUS317B; PackageVersion: 4200577-3/F; PackageReference: KTT5; PackageDescription: 3-Pin Plastic Flange Mount, Body 10.16 x 10.34 mm, Pitch 1.7 mm; Supplier 1: Digi-Key; Supplier Part Number 1: UC282TDTR-ADJG3-ND; Supplier 2: Mouser; Supplier Part Number 2: 595-UC282TDTR-ADJG3; Eco-Plan: Green (RoHS & no Sb/Br); Mounting Technology: Surface Mount; Code_JEDEC: TO-263; ComponentLink1Description: Manufacturer URL; ComponentLink1URL: http://www.ti.com/; ComponentLink2Description: Datasheet; ComponentLink2URL: http://www.ti.com/general/docs/lit/getliterature.tsp?genericPartNumber=UC282-ADJ&fileType=pdf; ComponentLink3Description: Package Specification; ComponentLink3URL: http://www.ti.com/litv/pdf/mpsf007e
footprint TI-KTT5_N (DPAK, 5-Leads, Body 10.16x8.925mm, Pitch 1.7mm, IPC Medium Density)
footprint TI-KTT5_L (DPAK, 5-Leads, Body 10.16x8.925mm, Pitch 1.7mm, IPC High Density)
footprint TI-KTT5_M (DPAK, 5-Leads, Body 10.16x8.925mm, Pitch 1.7mm, IPC Low Density)
pins: 1 VB (power) "Supplies power to all circuits of the regulator except the output power transistor. The 2-V headroom from VB to VOUT allows the use of a Darlington output stage for inherently low output impedance and fast response.(Dropout (See Datasheet)", 2 VIN (power) "Supplies the current to the collector of the output power transistor only. The dropout (VIN-VOUT) is under 100 mV for light loads; maximum dropout is 490 mV at 5 A for TJ = 0degreesC to 100degreesC. (Dropout is derated for (See Datasheet)", 3 GND (power) "For accurate results, the GND pin should be referenced to the load ground.", 4 VOUT (power) "This pin should be connected to the load via a low impedance path. Avoid connectors which add significant inductance and resistance. Note that even though a Kelvin sense is available through a 5-pin package, care must be (See Datasheet)", 5 ADJ (in) "In the adjustable version, the user programs the output voltage with two external resistors. The resistors should be 0.1% for high accuracy. The output amplifier is configured as a noninverting operational amplifier. The (See Datasheet)", 6 TAB (power) "Tab = Ground"

## UC285T-1G3
designator U?
Single Output Fast Transient Response LDO, 5 A, Fixed 1.5 V Output, 1.8 to 7.5 V Input, 5-pin TO-220 (KC), -40 to 85 degC, Green (RoHS & no Sb/Br); Manufacturer: Texas Instruments; PartNumber: UC285T-1G3; Accuracy(%): 1; Fixed Output Options(V): 1.5; Iout(Max)(A): 5; SubFamily: Single Channel LDO; Vdo(Typ)(mV): 350; Vin(Max)(V): 7.5; Vin(Min)(V): 1.8; DatasheetVersion: SLUS212F; PackageVersion: 4040208/F; PackageReference: KC5; PackageDescription: 5-Pin Plastic Flange Mount; Supplier 1: Digi-Key; Supplier Part Number 1: UC285T-1G3-ND; Supplier 2: Mouser; Supplier Part Number 2: 595-UC285T-1G3; Eco-Plan: Green (RoHS & no Sb/Br); Vout Adj(Max)(V): 1.5; Vout Adj(Min)(V): 1.5; Mounting Technology: Through Hole; ComponentLink1Description: Manufacturer URL; ComponentLink1URL: http://www.ti.com/; ComponentLink2Description: Datasheet; ComponentLink2URL: http://www.ti.com/general/docs/lit/getliterature.tsp?genericPartNumber=UC285-1&fileType=pdf; ComponentLink3Description: Package Specification; ComponentLink3URL: http://www.ti.com/litv/pdf/msot008c
footprint TI-KC5 (FM, 5-Leads, Body 10.16x8.46mm, Pitch 1.7mm,)
pins: 1 VB (power) "Supplies power to all circuits of the regulator except the output power transistor. The 2-V headroom from VB to VOUT allows the use of a Darlington output stage for inherently low output impedance and fast response. (Dropout (See Datasheet)", 2 VIN (power) "Supplies the current to the collector of the output power transistor only. The dropout (VIN-VOUT) is under 100 mV for light loads; maximum dropout is 490 mV at 5 A for TJ = 0degreesC to 100degreesC. (Dropout is derated for (See Datasheet)", 3 GND (power) "For accurate results, the GND pin should be referenced to the load ground.", 4 VOUT (power) "This pin should be connected to the load via a low impedance path. Avoid connectors which add significant inductance and resistance. Note that even though a Kelvin sense is available through a 5-pin package, care must be (See Datasheet)", 5 ADJ (in) "In the adjustable version, the user programs the output voltage with two external resistors. The resistors should be 0.1% for high accuracy. The output amplifier is configured as a noninverting operational amplifier. The (See Datasheet)"